# Altium schematic symbol library LED.SchLib: 3 symbols
Pins are listed as number, name and electrical type; pins without a type are passive.

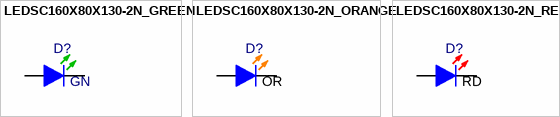
[diagram p0: symbols LEDSC160X80X130-2N_GREEN to LEDSC160X80X130-2N_RED]

## LEDSC160X80X130-2N_GREEN
designator D?, comment Colour: GN  (hidden comment: Green)
LED Green; Manufacturer 1: Dialight; Manufacturer Part Number 1: 598-8070-107F; Supplier 1: Mouser; Supplier Part Number 1: 645-598-8070-107F; Last Updated: 2014-06-26; Created: 2013-09-29; ComponentLink1Description: Datasheet
footprint LEDSC160X80X130-2N_GREEN (Green SMD LED 1608 Metric)
pins: A "Anode", C "Cathode"

## LEDSC160X80X130-2N_ORANGE
designator D?, comment Orange  (value not drawn)
LED Orange; Manufacturer 1: Vishay; Manufacturer Part Number 1: VLMO1300-GS08; Supplier 1: Mouser; Supplier Part Number 1: 78-VLMO1300-GS08; Last Updated: 2013-10-09; Created: 2013-09-29; ComponentLink1Description: Datasheet
footprint LEDSC160X80X130-2N_ORANGE (Orange SMD LED 1608 Metric)
pins: 1 A "Anode", 2 K "Cathode"
text: OR

## LEDSC160X80X130-2N_RED
designator D?, comment LED Red  (value not drawn)
Manufacturer 1: Vishay; Manufacturer Part Number 1: VLMS1300-GS08; Supplier 1: Mouser; Supplier Part Number 1: 78-VLMS1300-GS08; Last Updated: 2015-04-28; Created: 2013-09-29; Package: LEDSC160X80X130-2N; ComponentLink1Description: Datasheet
footprint LEDSC160X80X130-2N_RED (Red SMD LED 1608 Metric)
pins: 1 A "Anode", 2 K "Cathode"
text: RD